# Altium schematic symbol library GOST_Miscelanuious.SchLib: 2 symbols
Pins are listed as number, name and electrical type; pins without a type are passive.

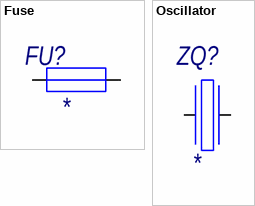
[diagram p0: symbols Fuse to Oscillator]

## Fuse
designator FU?
HelpURL: *; Model: *; Manufacture: *; Case: *; I_thr: *
pins: 1, 2

## Oscillator
designator ZQ?
HelpURL: *; Model: *; Manufacture: *; Case: *; Freq: *
pins: 1, 3